# EAGLE library part 2X05_1MM27_SHROUDED_CORTEX_JTAG_SWD (library df4iah_connector)
Header 2X5 1.27mm 0.05" shrouded - CORTEX JTAG-SWD SAMTEC FTSH-105-01-F-D-K HARWIN M50-3500542
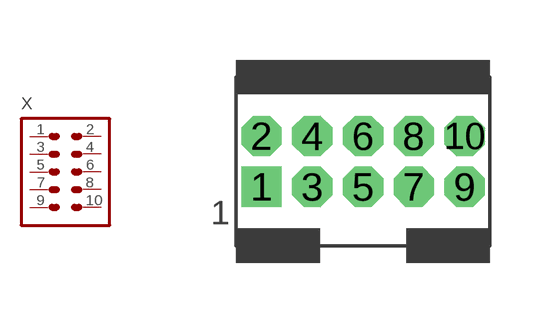
[diagram p28: symbol with the pads of 2X05_1MM27_SHROUDED_CORTEX_JTAG_SWD; footprint 2X05_1MM27_SHROUDED_CORTEX_JTAG_SWD]

Designator prefix X

## 2X05_1MM27_SHROUDED_CORTEX_JTAG_SWD"  [2X05_1MM27_SHROUDED_CORTEX_JTAG_SWD]
1  1  pas
2  2  pas
3  3  pas
4  4  pas
5  5  pas
6  6  pas
7  7  pas
8  8  pas
9  9  pas
10  10  pas

## Footprint 2X05_1MM27_SHROUDED_CORTEX_JTAG_SWD (pad centres in mm)
Header 2X5 shrouded 1.27mm 0.05" Compatible with Cortex 10-pin 0.05" JTAG/SWD Connector
drill 0.5 pad 0.914 square: 1 -2.54,-0.635
drill 0.5 pad 0.914 octagon: 2 -2.54,0.635; 3 -1.27,-0.635; 4 -1.27,0.635; 5 0,-0.635; 6 0,0.635; 7 1.27,-0.635; 8 1.27,0.635; 9 2.54,-0.635; 10 2.54,0.635